# Altium footprint library SOIC.PcbLib: 5 footprints
Each footprint in its own frame and in the unit in brackets; x right, y up, seen from the top. Pads: shape width x height; smd on the part's side, far side on the other; paste and mask are expansions set on the pad; w line width, h text height; cw(c..) or ccw(c..) is an arc to the next point about the centre after c.
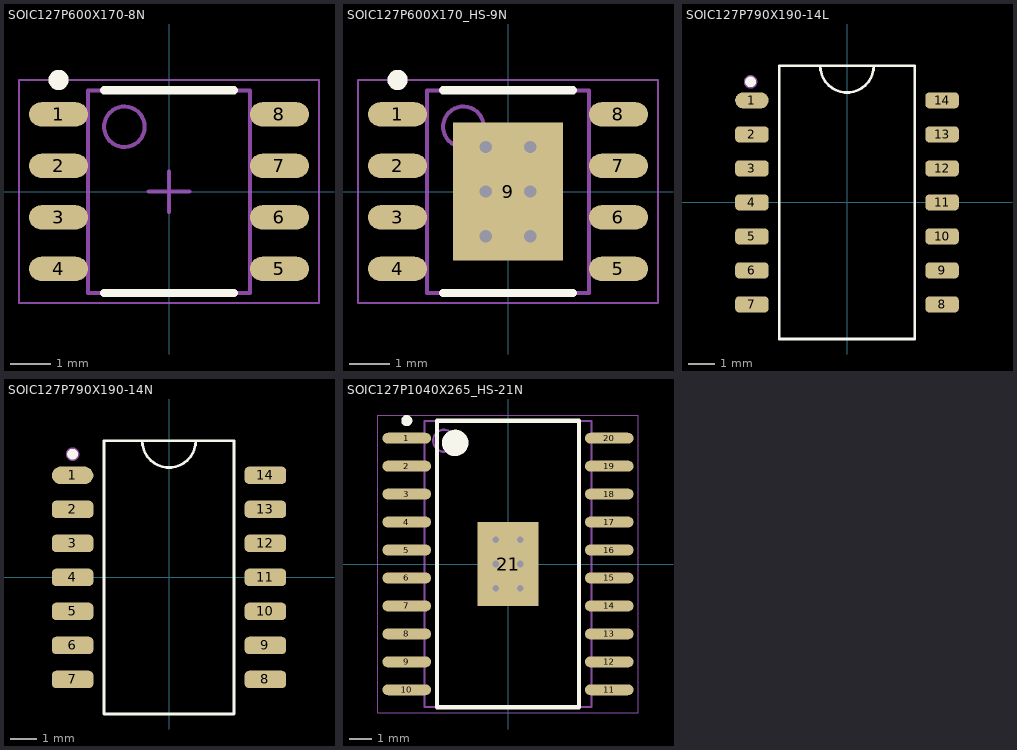
[diagram p0: the footprints below, top view; thin cyan lines are the x and y axes]

## SOIC127P600X170-8N [mm] "SOIC, 8-Leads, Body 4,90x3,90mm, Pitch 1,27mm, IPC Medium Density"
height 1.7
pads (8):
  oval 1.45x0.6 smd: 1(-2.725,1.905) 2(-2.725,0.635) 3(-2.725,-0.635) 4(-2.725,-1.905) 5(2.725,-1.905) 6(2.725,-0.635) 7(2.725,0.635) 8(2.725,1.905)
Top Overlay:
  circle w0.25: c-2.725,2.755 r0.125
  lines w0.2: -1.6,-2.5 1.6,-2.5 ; -1.6,2.5 1.6,2.5
Top Assembly:
  circle w0.1: c-1.1,1.6 r0.5
  lines w0.1: -2,-2.5 -2,2.5 2,2.5 2,-2.5 -2,-2.5
Mechanical 15:
  lines w0.05: -3.7,-2.75 -3.7,2.75 3.7,2.75 3.7,-2.75 -3.7,-2.75
  lines w0.1: -0.5,0 0.5,0 ; 0,-0.5 0,0.5
3D body "SOIC127P600X170_HS-9N.step": height 1.7, standoff 0, extent -3,-2.5 3,2.5

## SOIC127P600X170_HS-9N [mm] "SOIC, 8-Leads, Body 4,90x3,90mm, Pitch 1,27mm, Thermal Pad 3,40x2,71mm, IPC Medium Density"
height 1.7
pads (9):
  oval 1.45x0.6 smd: 1(-2.725,1.905) 2(-2.725,0.635) 3(-2.725,-0.635) 4(-2.725,-1.905) 5(2.725,-1.905) 6(2.725,-0.635) 7(2.725,0.635) 8(2.725,1.905)
  rect 2.71x3.4 smd: 9(0,0)
via -0.55,1.1 diameter 0.6 hole 0.3
via 0.55,1.1 diameter 0.6 hole 0.3
via -0.55,0 diameter 0.6 hole 0.3
via 0.55,0 diameter 0.6 hole 0.3
via -0.55,-1.1 diameter 0.6 hole 0.3
via 0.55,-1.1 diameter 0.6 hole 0.3
Top Overlay:
  circle w0.25: c-2.725,2.755 r0.125
  lines w0.2: -1.6,-2.5 1.6,-2.5 ; -1.6,2.5 1.6,2.5
Top Assembly:
  circle w0.1: c-1.1,1.6 r0.5
  lines w0.1: -2,-2.5 -2,2.5 2,2.5 2,-2.5 -2,-2.5
Mechanical 15:
  lines w0.05: -3.7,-2.75 -3.7,2.75 3.7,2.75 3.7,-2.75 -3.7,-2.75
  lines w0.1: -0.5,0 0.5,0 ; 0,-0.5 0,0.5
3D body "SOIC127P600X170_HS-9N.step": height 1.7, standoff 0, extent -3,-2.5 3,2.5

## SOIC127P790X190-14L [mm] "SOIC, 14-Leads, Body 10.20x5.30mm, Pitch 1.27mm, IPC High Density"
height 1.9
pads (14):
  oval 1.25x0.6 smd: 1(-3.55,3.81)
  rrect50% 1.25x0.6 smd: 2(-3.55,2.54) 3(-3.55,1.27) 4(-3.55,0) 5(-3.55,-1.27) 6(-3.55,-2.54) 7(-3.55,-3.81) 8(3.55,-3.81) 9(3.55,-2.54) 10(3.55,-1.27) 11(3.55,0) 12(3.55,1.27) 13(3.55,2.54) 14(3.55,3.81)
Top Overlay:
  circle w0.2: c-3.6,4.5 r0.1
  lines w0.1: -1,5.1 ccw(c0,5.1) 1,5.1 ; -2.525,-5.1 2.525,-5.1 2.525,5.1 -2.525,5.1 -2.525,-5.1
Top Assembly:
  circle w0.25: c-3.6,4.5 r0.125
3D body "SOIC127P790X190-14L.step": height 1.9, standoff 0, extent -3.95,-5.1 3.95,5.1

## SOIC127P790X190-14N [mm] "SOIC, 14-Leads, Body 10.20x5.30mm, Pitch 1.27mm, IPC Medium Density"
height 1.9
pads (14):
  oval 1.55x0.65 smd: 1(-3.6,3.81)
  rrect50% 1.55x0.65 smd: 2(-3.6,2.54) 3(-3.6,1.27) 4(-3.6,0) 5(-3.6,-1.27) 6(-3.6,-2.54) 7(-3.6,-3.81) 8(3.6,-3.81) 9(3.6,-2.54) 10(3.6,-1.27) 11(3.6,0) 12(3.6,1.27) 13(3.6,2.54) 14(3.6,3.81)
Top Overlay:
  circle w0.2: c-3.6,4.6 r0.1
  lines w0.1: -1,5.1 ccw(c0,5.1) 1,5.1 ; -2.425,-5.1 2.425,-5.1 2.425,5.1 -2.425,5.1 -2.425,-5.1
Top Assembly:
  circle w0.25: c-3.6,4.6 r0.125
3D body "SOIC127P790X190-14N.step": height 1.9, standoff 0, extent -3.95,-5.1 3.95,5.1

## SOIC127P1040X265_HS-21N [mm] "SOIC, 20-Leads, Body 12,83x7,52mm, Pitch 1,27mm, Thermal Pad 3,81x2,79mm, IPC Medium Density"
height 2.65
pads (21):
  oval 2.2x0.5 smd: 1(-4.6,5.715) 2(-4.6,4.445) 3(-4.6,3.175) 4(-4.6,1.905) 5(-4.6,0.635) 6(-4.6,-0.635) 7(-4.6,-1.905) 8(-4.6,-3.175) 9(-4.6,-4.445) 10(-4.6,-5.715) 11(4.6,-5.715) 12(4.6,-4.445) 13(4.6,-3.175) 14(4.6,-1.905) 15(4.6,-0.635) 16(4.6,0.635) 17(4.6,1.905) 18(4.6,3.175) 19(4.6,4.445) 20(4.6,5.715)
  rect 2.79x3.81 smd: 21(0,0)
via -0.55,1.1 diameter 0.6 hole 0.3
via 0.55,1.1 diameter 0.6 hole 0.3
via -0.55,0 diameter 0.6 hole 0.3
via 0.55,0 diameter 0.6 hole 0.3
via -0.55,-1.1 diameter 0.6 hole 0.3
via 0.55,-1.1 diameter 0.6 hole 0.3
Top Overlay:
  circle w0.25: c-4.6,6.515 r0.125
  circle w0.6: c-2.4,5.5 r0.3
  lines w0.2: -3.225,-6.5 -3.225,6.5 3.225,6.5 3.225,-6.5 -3.225,-6.5
Top Assembly:
  circle w0.1: c-2.9,5.6 r0.5
  lines w0.1: -3.8,-6.5 -3.8,6.5 3.8,6.5 3.8,-6.5 -3.8,-6.5
Mechanical 15:
  lines w0.05: -5.925,-6.75 -5.925,6.75 5.925,6.75 5.925,-6.75 -5.925,-6.75
  lines w0.1: -0.5,0 0.5,0 ; 0,-0.5 0,0.5
3D body "SOIC127P1040X265_HS-21N.step": height 2.65, standoff 0, extent -5.202,-6.5 5.202,6.5